# Altium footprint library AIRZAI_LID_BD_REVA1.PcbLib: 22 footprints (part 1 of 2)
Each footprint in its own frame and in the unit in brackets; x right, y up, seen from the top. Pads: shape width x height; smd on the part's side, far side on the other; paste and mask are expansions set on the pad; w line width, h text height; cw(c..) or ccw(c..) is an arc to the next point about the centre after c.
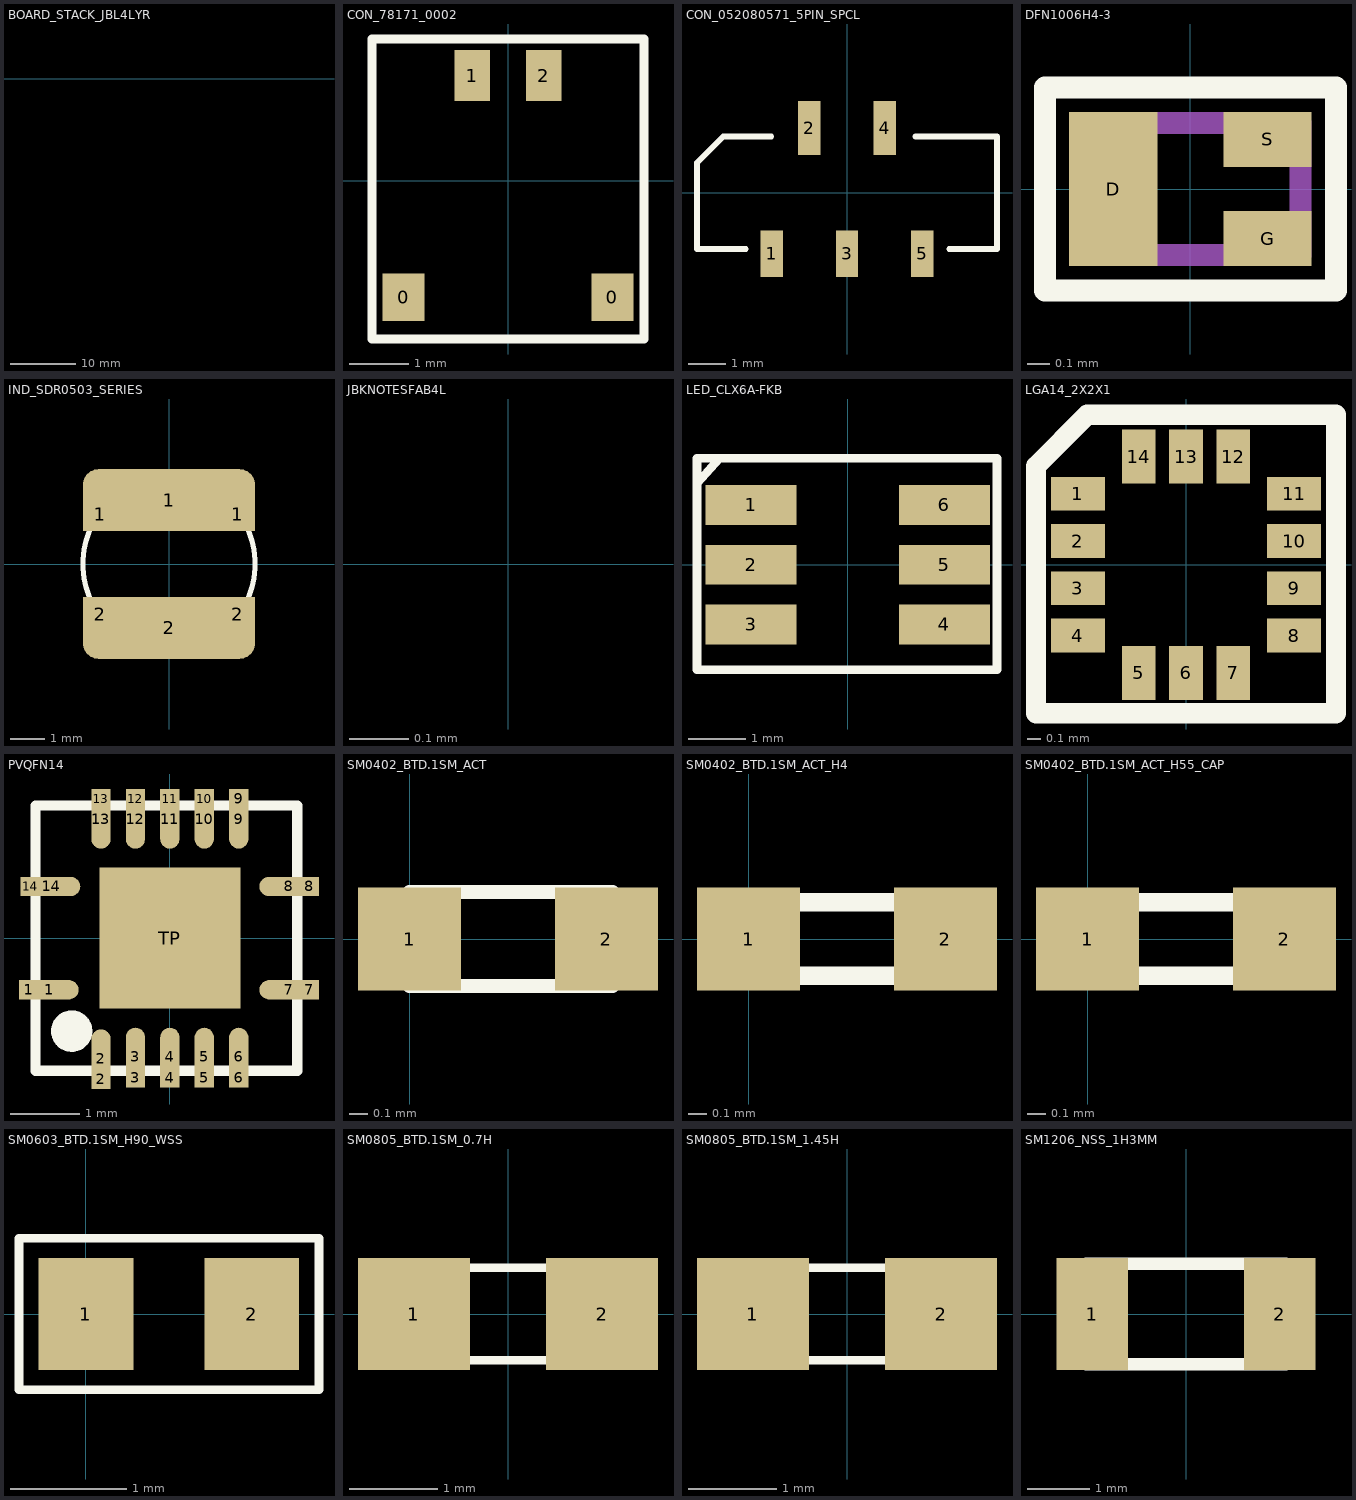
[diagram p0: the footprints below, top view; thin cyan lines are the x and y axes]

## BOARD_STACK_JBL4LYR [mm]
Drill Drawing:
  lines w0.3: 26.507,-19.006 26.507,-14.007 72.725,-14.007 72.725,-19.006 26.507,-19.006 ; 29.507,-30.005 29.507,-25.006 63.504,-25.006 63.504,-30.005 29.507,-30.005 ; 29.507,-8.007 29.507,-3.008 63.504,-3.008 63.504,-8.007 29.507,-8.007
  lines w1: 28.507,-34.005 66.504,-34.005 ; 28.507,-22.006 66.504,-22.006 ; 28.507,-12.007 66.504,-12.007 ; 28.507,-0.008 66.504,-0.008
  text "TOTAL BOARD THICKNESS .80" at 30.325,-39.5 h2.25
  text "0.132MM" at 39.017,-7.063 h2.25
  text "1OZ. CU" at 71.014,-36.061 h2.25
  text "1OZ. CU" at 70.014,-24.062 h2.25
  text "1OZ. CU" at 71.014,-13.063 h2.25
  text "1OZ. CU" at 70.014,-2.064 h2.25
  text "BOT LAYER" at 2.02,-36.061 h3
  text "IN2 LAYER" at 1.02,-24.062 h3
  text "IN1 LAYER" at 1.02,-14.062 h3
  text "TOP LAYER" at 0.02,-3.063 h3
  text "DIMENSIONS ARE IN MM" at 23.478,-44.965 h2.25
  text "ADJUST TO THICKNESS" at 29.017,-18.062 h2.25
  text "0.132MM" at 40.016,-29.061 h2.25

## CON_78171_0002 [mm]
pads (4):
  rect 0.7x0.8 smd mask+0.1: 0(-1.75,-1.95) 0(1.75,-1.95)
  rect 0.6x0.85 smd mask+0.1: 1(-0.6,1.763) 2(0.6,1.763)
Top Overlay:
  lines w0.15: -2.275,-2.65 -2.275,2.375 2.275,2.375 2.275,-2.65 -2.275,-2.65
3D body "conn_molex_781710002_4.stp": height 1.44, standoff -0.01, extent -2.1,-2.565 2.1,1.965

## CON_052080571_5PIN_SPCL [mm]
pads (5):
  rect 0.6x1.25 smd: 1(-2,-1.625) 3(0,-1.625) 5(2,-1.625)
  rect 0.6x1.45 smd: 2(-1,1.725) 4(1,1.725)
Top Overlay:
  lines w0.15: -2.7,-1.5 -4,-1.5 -4,0.8 -3.3,1.5 -2.025,1.5 ; 1.825,1.5 4,1.5 4,-1.5 2.725,-1.5
3D body "528080571.stp": height 5.05, standoff -0.05, extent -4,-2.15 4,2.35

## DFN1006H4-3 [mm]
pads (3):
  rect 0.4x0.7 smd paste-0.05 mask+0.05: D(-0.35,0)
  rect 0.4x0.25 smd paste-0.05 mask+0.05: G(0.35,-0.225) S(0.35,0.225)
Top Overlay:
  lines w0.1: -0.66,-0.46 0.66,-0.46 0.66,0.46 -0.66,0.46 -0.66,-0.46
Mechanical 1:
  lines w0.1: -0.5,-0.3 0.5,-0.3 0.5,0.3 -0.5,0.3 -0.5,-0.3
3D body: height 0.5, standoff 0, extent -0.5,-0.3 0.5,0.3

## IND_SDR0503_SERIES [mm]
pads (6):
  rect 1x1 smd paste-0.1 mask+0.1: 1(-2,1.45) 1(2,1.45) 2(-2,-1.45) 2(2,-1.45)
  rrect50% 5x1.8 smd paste-0.1 mask+0.1: 1(0,1.85) 2(0,-1.85)
Top Overlay:
  lines w0.15: -0.255,-2.487 cw(c0,0) -0.255,2.487 ; -0.2,-2.475 -0.2,-2.175 ; -0.2,-2.15 cw(c0,-2.15) 0.2,-2.15 ; -0.2,2.15 ccw(c0,2.15) 0.2,2.15 ; -0.2,2.175 -0.2,2.475 ; 0.2,-2.475 0.2,-2.175 ; 0.2,2.175 0.2,2.475 ; 0.255,-2.487 ccw(c0,0) 0.255,2.487
3D body "sdr0503.stp": height 3, standoff 0, extent -2.5,-2.5 2.5,2.5

## JBKNOTESFAB4L [mm]
pads (1):
  round 0 all layers, no hole: 1(0,0)
Drill Drawing:
  text "8. NO SILKSCREEN." at 0.075,-45.575 h2.1
  text "AND BE RoHS COMPLIANT." at 7.757,-29.069 h1.91
  text "LOCATED AS SHOWN, ON BOTTOM TRACE LAYER." at 8.05,-56.34 h1.91
  text "USING ARTWORK AND DRILL FILES SUPPLIED WITH THIS DRAWING." at 7.557,-11.167 h1.91
  text "4.  ALL MATERIALS TO HAVE A FLAMMABILITY RATING 94 V-0 OR BETTER," at -0.135,-26.072 h1.91
  text "2.  MATERIAL: USE AN APPROVED LEAD-FREE FR-4, WITH A MINIMUM 170 TG RATING." at -0.285,-14.833 h1.91
  text "NOTES UNLESS OTHERWISE SPECIFIED:" at 0,-3.175 h2.38
  text "1.  BOARD TO BE FABRICATED IN ACCORDANCE WITH IPC-A-600," at -0.535,-7.87 h1.91
  text "WITH THIS PART MAY REQUIRE SPECIAL SAFETY PRECAUTIONS." at 8,-72.5 h1.91
  text "3.  SOLDERMASK BOTH SIDES. THICKNESS NOT TO EXCEED .002 IN." at -0.285,-22.145 h1.91
  text "FINISHED COPPER THICKNESS PER LAYER STACK." at 7.358,-18.546 h1.91
  text "11.  WARNING: THE MANUFACTURING PROCESSES AND THE MATERIALS ASSOCIATED" at -1,-68.75 h1.91
  text "5.  REFERENCE POINT 0,0 FOR DRILL FILE LISTING." at -0.285,-33.095 h1.91
  text "10.  VENDOR IDENTIFICATION, UL COMPLIANCE AND DATE CODE TO BE PERMANTLY" at -1.334,-60.758 h1.91
  text "AFFIXED AND LOCATED AS SHOWN, ON BOTTOM TRACE LAYER." at -1.341,-64.282 h1.91
  text "6.  WARP NOT TO EXCEED IPC SPECIFICATION FOR CLASS 2 PCB'S." at -0.385,-37.055 h1.91
  text "9.  ELECTRICAL TEST REQUIRED, ELECTRICAL TEST MARK," at -0.007,-53.277 h1.91
  text "7.  BOARD FINISH ENIG." at -0.135,-40.976 h1.91

## LED_CLX6A-FKB [mm]
pads (6):
  rect 1.6x0.7 smd paste-0.1 mask+0.07: 1(-1.7,1.05) 2(-1.7,0) 3(-1.7,-1.05) 4(1.7,-1.05) 5(1.7,0) 6(1.7,1.05)
Top Overlay:
  lines w0.15: -2.65,1.425 -2.249,1.874 ; -2.65,-1.85 -2.65,1.875 2.625,1.875 2.625,-1.85 -2.65,-1.85
3D body: height 2.9, standoff 0, extent -1.76,1.49 -1.49,1.76
3D body: height 1.7, standoff 0, extent -1.8,-1.325 1.8,-0.725
3D body: height 1.7, standoff 0, extent -1.8,0.75 1.8,1.35
3D body: height 1.7, standoff 0, extent -1.8,-0.3 1.8,0.3
3D body: height 2.8, standoff 0, extent -1.75,-1.75 1.75,1.75

## LGA14_2X2X1 [mm]
pads (14):
  rect 0.4x0.25 smd paste+0 mask+0: 1(-0.8,0.525) 2(-0.8,0.175) 3(-0.8,-0.175) 4(-0.8,-0.525) 8(0.8,-0.525) 9(0.8,-0.175) 10(0.8,0.175) 11(0.8,0.525)
  rect 0.25x0.4 smd paste+0 mask+0: 5(-0.35,-0.8) 6(0,-0.8) 7(0.35,-0.8) 12(0.35,0.8) 13(0,0.8) 14(-0.35,0.8)
Top Overlay:
  lines w0.15: -1.11,-1.1 1.11,-1.1 1.11,1.11 -0.73,1.11 -1.11,0.73 -1.11,-1.1
3D body: height 1, standoff 0, extent -1,-1 1,1

## PVQFN14 [mm]
pads (29):
  rect 0.28x0.28 smd paste-0.025 mask+0.07: 1(-2.05,-0.75) 2(-1,-2.05) 3(-0.5,-2.025) 4(0,-2.025) 5(0.5,-2.025) 6(1,-2.025) 7(2.025,-0.75) 8(2.025,0.75) 9(1,2.025) 10(0.5,2.025) 11(0,2.025) 12(-0.5,2.025) 13(-1,2.025) 14(-2.025,0.75)
  rrect100% 0.85x0.28 smd paste-0.025 mask+0.07: 1(-1.75,-0.75) 7(1.725,-0.75) 8(1.725,0.75) 14(-1.725,0.75)
  rrect100% 0.28x0.85 smd paste-0.025 mask+0.07: 2(-1,-1.75) 3(-0.5,-1.725) 4(0,-1.725) 5(0.5,-1.725) 6(1,-1.725) 9(1,1.725) 10(0.5,1.725) 11(0,1.725) 12(-0.5,1.725) 13(-1,1.725)
  rect 2.05x2.05 smd paste-5 mask+0.07: TP(0,0)
Top Overlay:
  circle w0.3: c-1.425,-1.35 r0.15
  lines w0.15: -1.95,-1.925 -1.95,1.925 1.85,1.925 1.85,-1.925 -1.95,-1.925
Top Paste:
  rectangle: -0.95,0.15 -0.15,0.95
  rectangle: 0.15,0.15 0.95,0.95
  rectangle: 0.15,-0.95 0.95,-0.15
  rectangle: -0.95,-0.95 -0.15,-0.15
3D body: height 1, standoff 0, extent -1.825,-1.825 1.75,1.825

## SM0402_BTD.1SM_ACT [mil]
pads (2):
  rect 22x22 smd mask+4: 1(0,0) 2(42,0)
Top Overlay:
  lines w2.99: 0,-10 43.27,-10 43.27,10 0,10 0,-10
3D body: height 23.62, standoff 0, extent -0.98,-9.84 44.29,9.84

## SM0402_BTD.1SM_ACT_H4 [mil]
pads (2):
  rect 22x22 smd mask+4: 1(0,0) 2(42,0)
Top Overlay:
  lines w3.94: 0.98,-7.87 42.32,-7.87 42.32,7.87 0.98,7.87 0.98,-7.87
3D body: height 19.68, standoff 0, extent -0.98,-9.84 44.29,9.84

## SM0402_BTD.1SM_ACT_H55_CAP [mil]
pads (2):
  rect 22x22 smd mask+2.76: 1(0,0) 2(42,0)
Top Overlay:
  lines w3.94: 0.98,-7.87 0.98,7.87 42.32,7.87 42.32,-7.87 0.98,-7.87
3D body: height 25.59, standoff 0, extent -0.98,-9.84 44.29,9.84

## SM0603_BTD.1SM_H90_WSS [mil]
pads (2):
  rect 32x38 smd mask+4: 1(0,0) 2(56,0)
Top Overlay:
  lines w3: -22.64,-25.59 78.74,-25.59 78.74,25.59 -22.64,25.59 -22.64,-25.59
3D body: height 35.43, standoff 0, extent -3.94,-16.73 59.06,16.73

## SM0805_BTD.1SM_0.7H [mil]
pads (2):
  rect 50x50 smd: 1(-42,0) 2(42,0)
Top Overlay:
  lines w3.94: -41.34,-20.67 41.34,-20.67 41.34,20.67 -41.34,20.67 -41.34,-20.67
3D body: height 29.53, standoff 0, extent -43.31,-22.64 43.31,22.64

## SM0805_BTD.1SM_1.45H [mil]
pads (2):
  rect 50x50 smd: 1(-42,0) 2(42,0)
Top Overlay:
  lines w3.94: -41.34,-20.67 41.34,-20.67 41.34,20.67 -41.34,20.67 -41.34,-20.67
3D body: height 57.09, standoff 0, extent -43.31,-22.64 43.31,22.64

## SM1206_NSS_1H3MM [mm]
pads (2):
  rect 1.15x1.8 smd: 1(-1.5,0) 2(1.5,0)
Top Overlay:
  lines w0.15: -1.625,-0.825 -1.625,0.825 1.625,0.825 1.625,-0.825 -1.625,-0.825
  lines w0.2: -1.6,-0.8 1.6,-0.8 1.6,0.8 -1.6,0.8 -1.6,-0.8
3D body: height 1.3, standoff 0.1, extent -1.7,-0.9 1.7,0.9